# Altium integrated library MMBT2907_.IntLib: 1 symbol
Pins are listed as number, name and electrical type; pins without a type are passive.

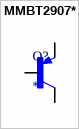
[diagram p0: symbol MMBT2907*]

## MMBT2907*
designator Q?
Bipolar (BJT) Transistor PNP 60 V 600 mA 200MHz 150 mW Surface Mount SC-70-3 (SOT323); MF: ON Semiconductor; MP: MMBT2907; SnapEDA_Link: https://www.snapeda.com/parts/MMBT2907/Onsemi/view-part/?ref=snap; Package: SOT-23-3 ON Semiconductor; Value: *; Check_prices: https://www.snapeda.com/parts/MMBT2907/Onsemi/view-part/?ref=eda
footprint SOT23-BEC
pins: B, C, E